# EAGLE library part ISP1301 (library nxp)
USB OTG Transceiver
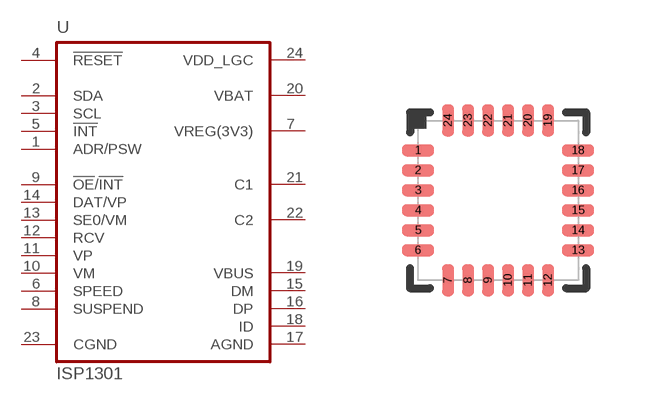
[diagram p6: symbol with the pads of HVQFN24; footprint HVQFN24]

Designator prefix U

## ISP1301BS  [HVQFN24]
1  ADR/PSW
2  SDA
3  SCL
4  !RESET!  in
5  !INT!  out
6  SPEED  in
7  VREG(3V3)  out
8  SUSPEND  in
9  !OE!/!INT!
10  VM  out
11  VP  out
12  RCV  out
13  SE0/VM
14  DAT/VP
15  DM
16  DP
17  AGND  pwr
18  ID
19  VBUS
20  VBAT  pwr
21  C1
22  C2
23  CGND  pwr
24  VDD_LGC  pwr

## Footprint HVQFN24 (pad centres in mm)
HVQFN24 body 4x4 mm, JDEC MO-220, outline SOT616-1
smd 0.8 x 0.3: 1 -2,1.25; 2 -2,0.75; 3 -2,0.25; 4 -2,-0.25; 5 -2,-0.75; 6 -2,-1.25; 13 2,-1.25; 14 2,-0.75; 15 2,-0.25; 16 2,0.25; 17 2,0.75; 18 2,1.25
smd 0.3 x 0.8: 7 -1.25,-2; 8 -0.75,-2; 9 -0.25,-2; 10 0.25,-2; 11 0.75,-2; 12 1.25,-2; 19 1.25,2; 20 0.75,2; 21 0.25,2; 22 -0.25,2; 23 -0.75,2; 24 -1.25,2